# Altium footprint library headers.PcbLib: 8 footprints
Each footprint in its own frame and in the unit in brackets; x right, y up, seen from the top. Pads: shape width x height; smd on the part's side, far side on the other; paste and mask are expansions set on the pad; w line width, h text height; cw(c..) or ccw(c..) is an arc to the next point about the centre after c.
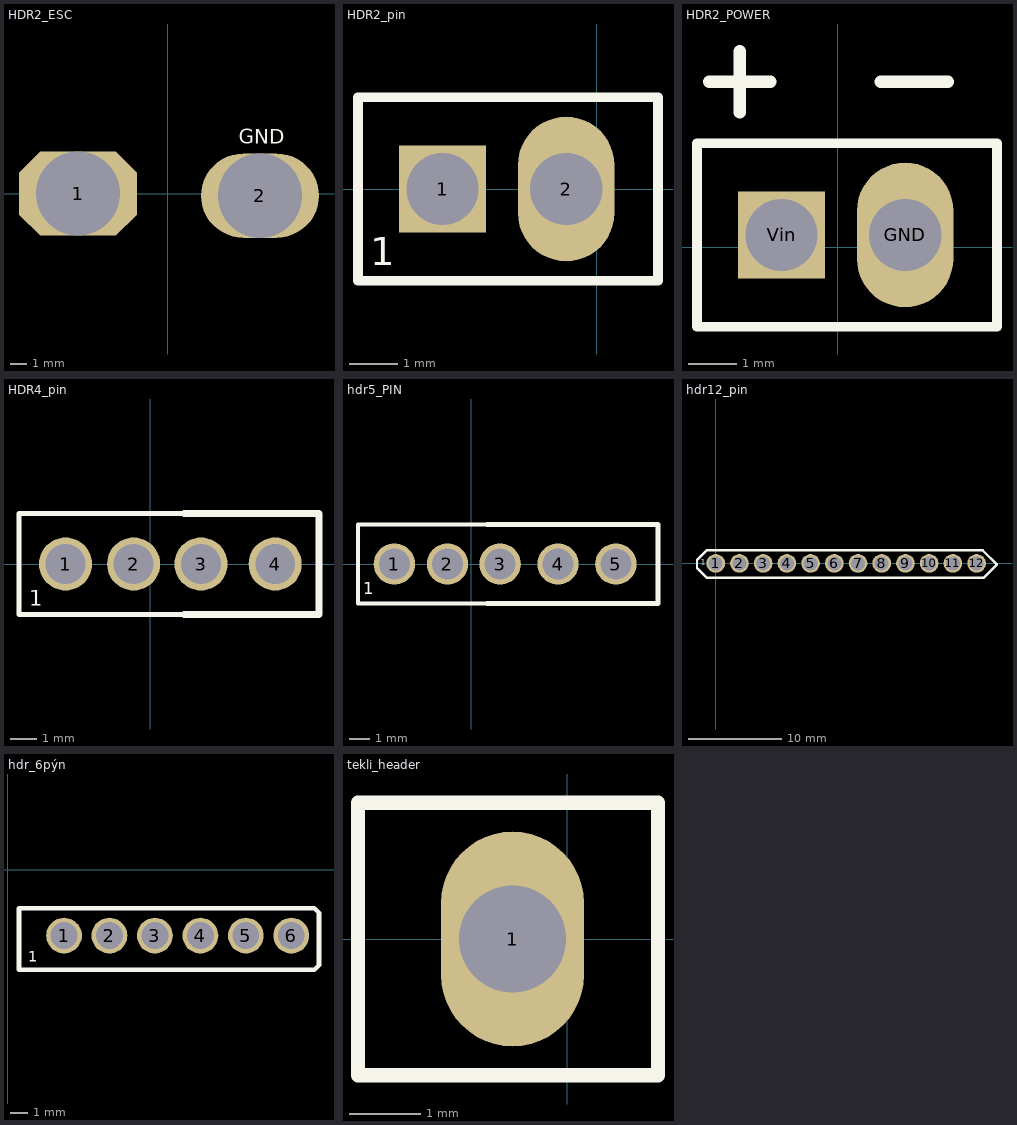
[diagram p0: the footprints below, top view; thin cyan lines are the x and y axes]

## HDR2_ESC [mm] "Connector; Header; 2 Position"
pads (2):
  oct 7x5 hole 5: 1(-5.334,0)
  oval 7x5 hole 5: 2(5.461,-0.127)
Top Overlay:
  text "GND" at 4.191,2.667 h1.5

## HDR2_pin [mm] "Connector; Header; 2 Position"
pads (2):
  rect 1.8x1.8 hole 1.5: 1(-3.2,0)
  oval 2x3 hole 1.5: 2(-0.635,0)
Top Overlay:
  lines w0.2: -4.953,-1.905 -4.953,1.905 1.27,1.905 1.27,-1.905 -4.953,-1.905
  text "1" at -4.699,-1.778 h1
3D body "Header, Male, 2.54mm, 1x2.STEP": height 11.54, standoff 0, extent -4.445,-1.143 0.635,1.397

## HDR2_POWER [mm]
pads (2):
  oval 2x3 hole 1.5: GND(1.397,0.254)
  rect 1.8x1.8 hole 1.5: Vin(-1.168,0.254)
Top Overlay:
  lines w0.2: -2.921,-1.651 -2.921,2.159 3.302,2.159 3.302,-1.651 -2.921,-1.651
  lines w0.254: -2.667,3.429 -1.397,3.429 ; -2.032,2.794 -2.032,4.064 ; 0.889,3.429 2.032,3.429 2.286,3.429
3D body "Header, Male, 2.54mm, 1x2.STEP": height 11.54, standoff 0, extent -2.413,-0.889 2.667,1.651

## HDR4_pin [mm] "Connector; Header; 2 Position"
pads (4):
  round 2 hole 1.5: 1(-3.2,0) 2(-0.635,0) 3(1.905,0) 4(4.699,0)
Top Overlay:
  lines w0.2: 1.27,-1.905 -4.953,-1.905 -4.953,1.905 1.27,1.905
  lines w0.25: 1.27,-1.905 6.35,-1.905 6.35,1.905 1.27,1.905
  text "1" at -4.572,-1.778 h1
3D body "Header, Male, 2.54mm, 1x2.STEP": height 11.54, standoff 0, extent -4.445,-1.143 0.635,1.397
3D body "Header, Male, 2.54mm, 1x2.STEP": height 11.54, standoff 0, extent 0.635,-1.143 5.715,1.397

## hdr5_PIN [mm]
pads (5):
  round 2 hole 1.5: 1(-3.708,0) 2(-1.143,0) 3(1.397,0) 4(4.191,0) 5(6.985,0)
Top Overlay:
  lines w0.2: 0.762,-1.905 -5.461,-1.905 -5.461,1.905 0.762,1.905
  lines w0.25: 0.762,-1.905 9.017,-1.905 9.017,1.905 0.762,1.905
  text "1" at -5.207,-1.651 h1
3D body "Header, Male, 2.54mm, 1x2.STEP": height 11.54, standoff 0, extent -4.953,-1.143 0.127,1.397
3D body "Header, Male, 2.54mm, 1x2.STEP": height 11.54, standoff 0, extent 0.127,-1.143 5.207,1.397

## hdr12_pin [mm]
pads (12):
  round 2 hole 1.5: 1(-0.025,0) 2(2.515,0) 3(5.055,0) 4(7.595,0) 5(10.135,0) 6(12.675,0) 7(15.215,0) 8(17.755,0) 9(20.295,0) 10(22.835,0) 11(25.375,0) 12(27.915,0)
Top Overlay:
  lines w0.254: -2.032,-0.508 -2.032,0.381 -1.016,1.397 28.575,1.397 30.099,-0.127 28.702,-1.524 -1.016,-1.524 -2.032,-0.508
  text "1" at -1.651,-0.381 h1
3D body "header__female4.STEP": height 8, standoff -8.76, extent -0.97,-1.397 8.99,1.143
3D body "header__female4.STEP": height 8, standoff -8.76, extent 8.99,-1.397 18.95,1.143
3D body "header__female4.STEP": height 8, standoff -8.76, extent 18.95,-1.397 28.91,1.143

## hdr_6pýn [mm]
pads (6):
  round 2 hole 1.5: 1(3.15,-3.683) 2(5.69,-3.683) 3(8.23,-3.683) 4(10.77,-3.683) 5(13.31,-3.683) 6(15.85,-3.683)
Top Overlay:
  lines w0.254: 0.635,-5.588 0.635,-2.159 17.145,-2.159 17.399,-2.413 17.399,-5.334 17.145,-5.588 0.635,-5.588
  text "1" at 1.143,-5.334 h1

## tekli_header [mm] "Connector; Header; 2 Position"
pads (1):
  oval 2x3 hole 1.5: 1(-0.762,0)
Top Overlay:
  lines w0.2: -2.921,-1.905 1.27,-1.905 1.27,1.905 -2.921,1.905 -2.921,-1.905